# EAGLE library part 691312510010 (library Wuerth_Elektronik_eiCan_Terminal_Blocks_v2.0)
WR-TBL Serie 312 - 5.08 mm Open Horizontal PCB Header , 10 Pins
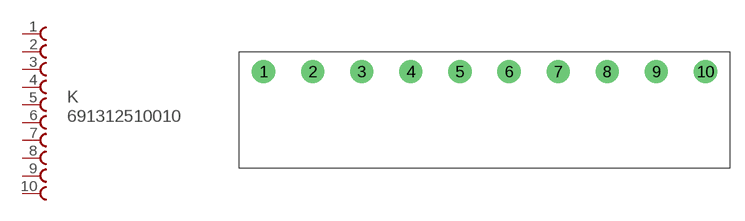
[diagram p135: symbol with the pads of 691312510010; footprint 691312510010]

Designator prefix K

## 691312510010  [691312510010]
1  1  pas
2  2  pas
3  3  pas
4  4  pas
5  5  pas
6  6  pas
7  7  pas
8  8  pas
9  9  pas
10  10  pas

## Footprint 691312510010 (pad centres in mm)
WR-TBL Serie 312 - 5.08 mm Open Horizontal PCB Header , 10 Pins
drill 1.6 round: 1 -20.32,0; 2 -15.24,0; 3 -10.16,0; 4 -5.08,0; 5 0,0; 6 5.08,0; 7 10.16,0; 8 15.24,0; 9 20.32,0; 10 25.4,0